# Altium footprint library RF.PcbLib: 3 footprints
Each footprint in its own frame and in the unit in brackets; x right, y up, seen from the top. Pads: shape width x height; smd on the part's side, far side on the other; paste and mask are expansions set on the pad; w line width, h text height; cw(c..) or ccw(c..) is an arc to the next point about the centre after c.
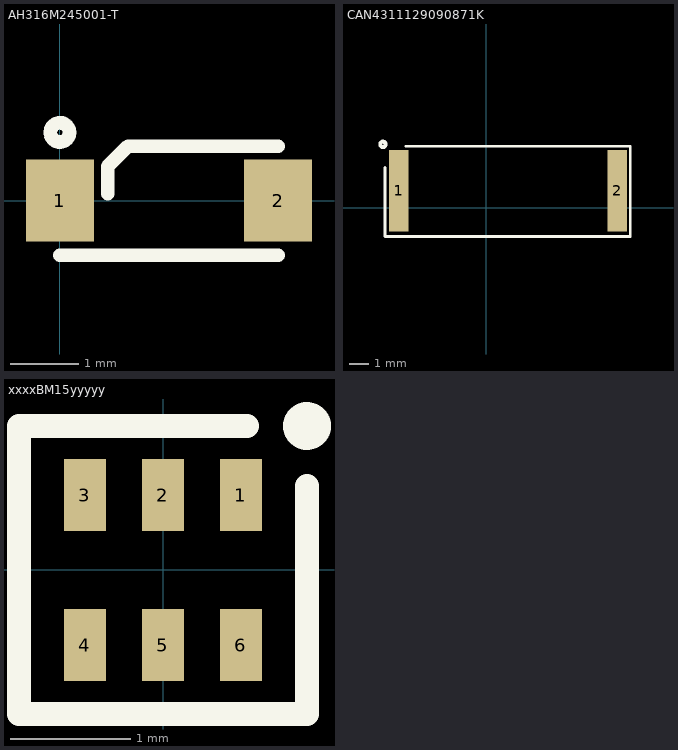
[diagram p0: the footprints below, top view; thin cyan lines are the x and y axes]

## AH316M245001-T [mm] "AH316M245001-T 2.4GHz antenna"
pads (2):
  rect 1x1.2 smd: 1(0,0) 2(3.2,0)
Top Overlay:
  circle w0.2: c0,1 r0.141
  lines w0.2: 0,-0.8 3.2,-0.8 ; 0.7,0.1 0.7,0.5 1,0.8 3.2,0.8

## CAN4311129090871K [mm]
pads (2):
  rect 1x4.25 smd: 1(-4.575,0.875) 2(6.825,0.875)
Top Overlay:
  circle w0.2: c-5.4,3.3 r0.141
  lines w0.15: -5.3,2.1 -5.3,-1.5 7.5,-1.5 7.5,3.2 -4.2,3.2
3D body "User Library-Yageo ANT1204LL08R0870A Ceramic Chip Antenna.step": height 1.6, standoff 0, extent -4.925,-1.175 7.175,2.925

## xxxxBM15yyyyy [mm] "CC11xx balun Johanson Technology"
pads (6):
  rect 0.35x0.6 smd: 1(0.65,0.625) 2(0,0.625) 3(-0.65,0.625) 4(-0.65,-0.625) 5(0,-0.625) 6(0.65,-0.625)
Top Overlay:
  circle w0.2: c1.2,1.2 r0.1
  lines w0.2: 0.7,1.2 -1.2,1.2 -1.2,-1.2 1.2,-1.2 1.2,0.7
3D body "User Library-Balun2450FB15L0001.step": height 0.8, standoff 0, extent -1,-0.625 1,0.625